# Altium schematic symbol library vDigital.SCHLIB: 48 symbols
Pins are listed as number, name and electrical type; pins without a type are passive.

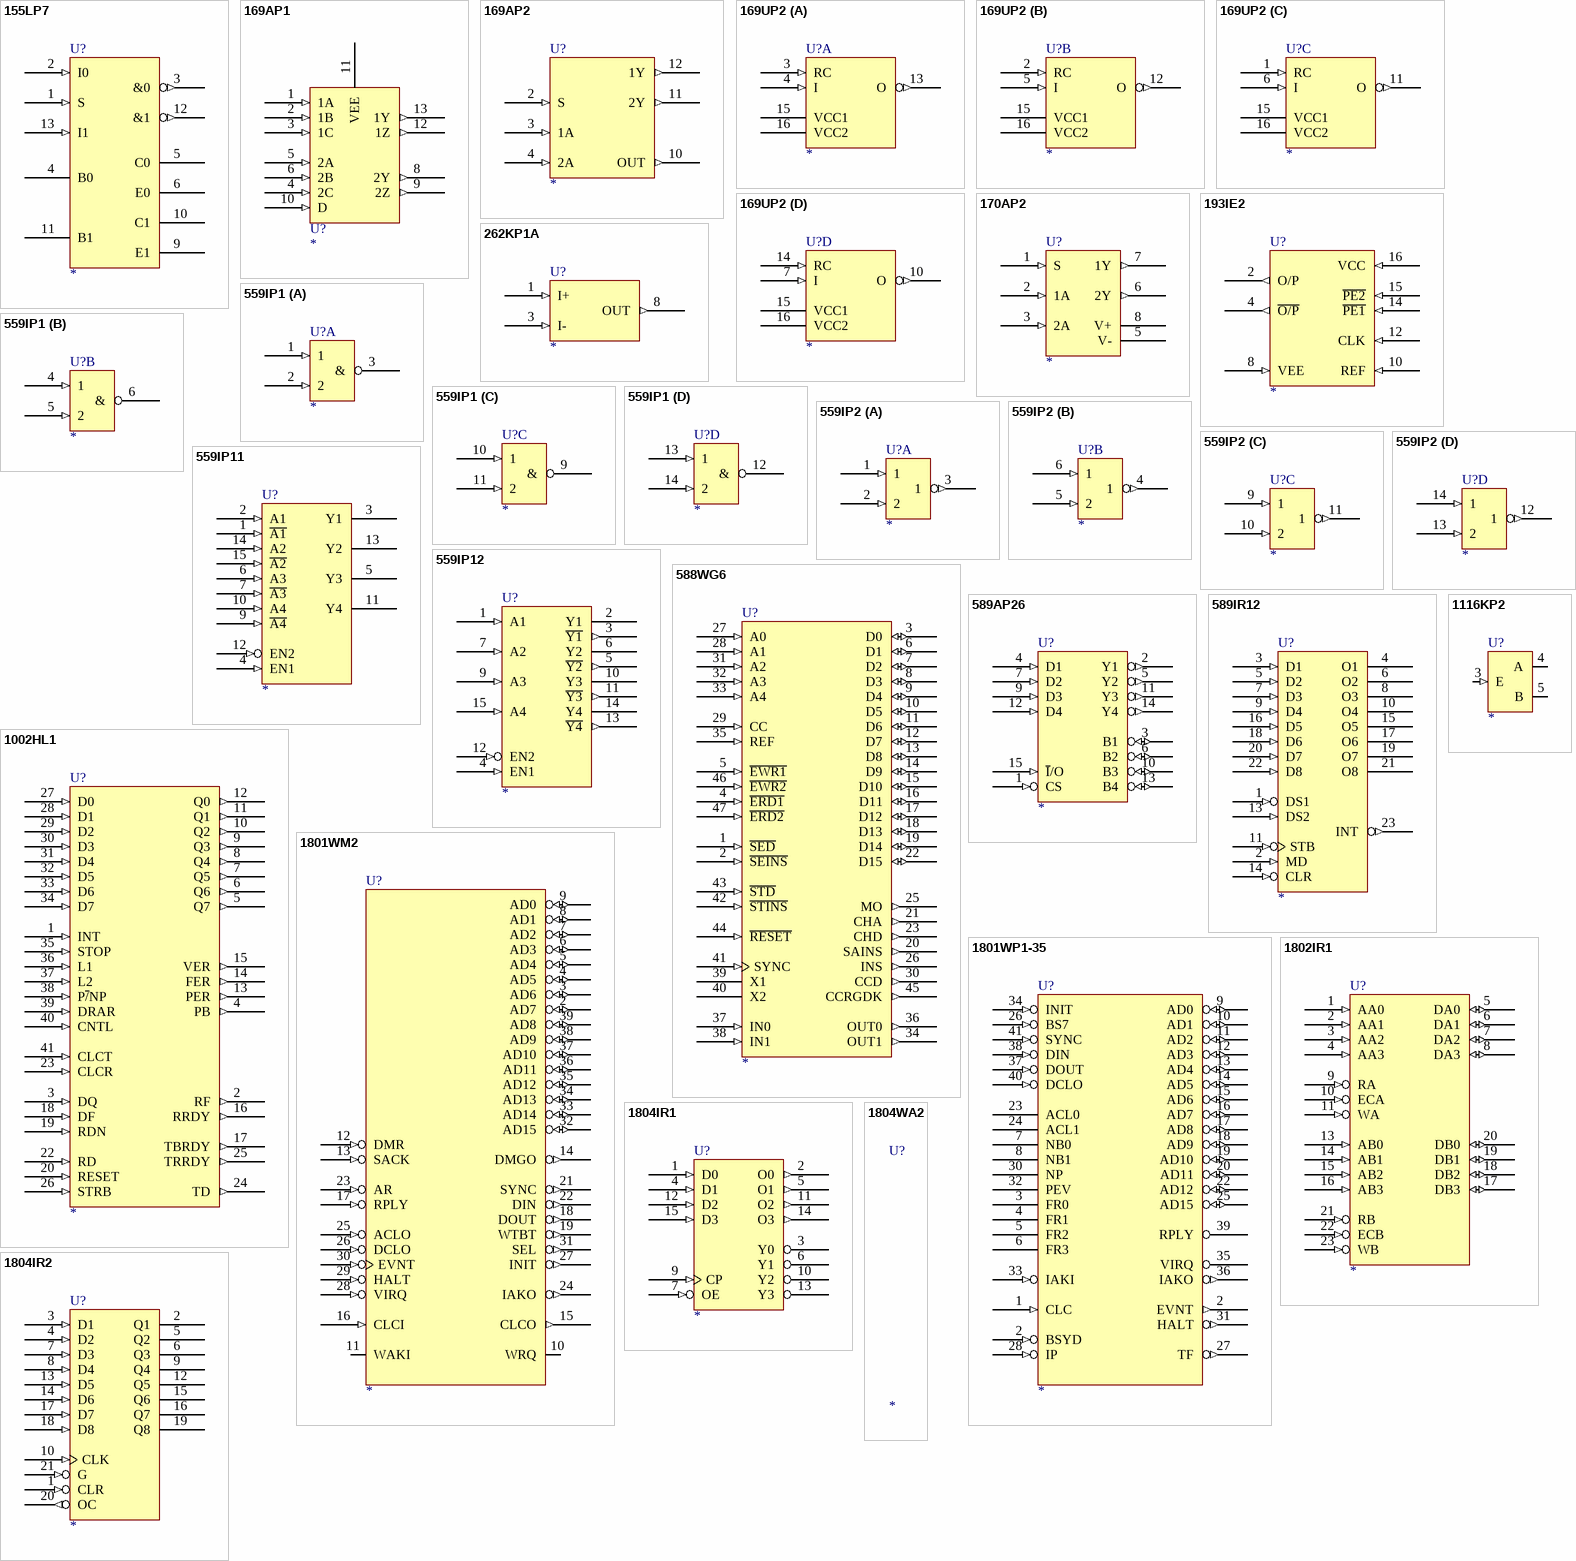
[diagram p0: symbols 155LP7 to 1804WA2]

## 155LP7
designator U?
Text Field1: 60; Text Field2: 140
pins: 1 S (in), 2 I0 (in), 3 &0 (out), 4 B0, 5 C0, 6 E0, 7 GND (power) hidden to GND, 9 E1, 10 C1, 11 B1, 12 &1 (out), 13 I1 (in), 14 VCC (power) hidden to VCC

## 169AP1
designator U?
Text Field1: 60; Text Field2: 90
pins: 1 1A (in), 2 1B (in), 3 1C (in), 4 2C (in), 5 2A (in), 6 2B (in), 7 GND (power) hidden to GND, 8 2Y (out), 9 2Z (out), 10 D (in), 11 VEE, 12 1Z (out), 13 1Y (out), 14 VCC (power) hidden to VCC

## 169AP2
designator U?
Text Field1: 70; Text Field2: 80
pins: 2 S (in), 3 1A (in), 4 2A (in), 5 GND (power) hidden to GND, 10 OUT (out), 11 2Y (out), 12 1Y (out), 13 VCC (power) hidden to VCC

## 169UP2
designator U?
Text Field1: 60; Text Field2: 60
part A pins: 3 RC (in), 4 I (in), 8 GND (power) hidden to GND, 13 O (out), 15 VCC1, 16 VCC2
part B pins: 2 RC (in), 5 I (in), 8 GND (power) hidden to GND, 12 O (out), 15 VCC1, 16 VCC2
part C pins: 1 RC (in), 6 I (in), 8 GND (power) hidden to GND, 11 O (out), 15 VCC1, 16 VCC2
part D pins: 7 I (in), 8 GND (power) hidden to GND, 10 O (out), 14 RC (in), 15 VCC1, 16 VCC2

## 170AP2
designator U?
Text Field1: 50; Text Field2: 70
pins: 1 S (in), 2 1A (in), 3 2A (in), 4 GND (power) hidden to GND, 5 V-, 6 2Y (out), 7 1Y (out), 8 V+

## 193IE2
designator U?
Text Field1: 70; Text Field2: 90
pins: 2 O/P (out), 4 ~{O/P} (out), 8 VEE (in), 10 REF (in), 12 CLK (in), 14 ~{PE1} (in), 15 ~{PE2} (in), 16 VCC (in)

## 262KP1A
designator U?
Text Field1: 60; Text Field2: 40
pins: 1 I+ (in), 3 VCC (power) hidden to VCC, 3 I- (in), 7 GND (power) hidden to GND, 8 OUT (out)

## 559IP1
designator U?
Text Field1: 30; Text Field2: 40
part A pins: 1 (in), 2 (in), 3 & (oc), 8 GND (power) hidden to GND, 16 VCC (power) hidden to VCC
part B pins: 4 1 (in), 5 2 (in), 6 & (oc), 8 GND (power) hidden to GND, 16 VCC (power) hidden to VCC
part C pins: 8 GND (power) hidden to GND, 9 & (oc), 10 1 (in), 11 2 (in), 16 VCC (power) hidden to VCC
part D pins: 8 GND (power) hidden to GND, 12 & (oc), 13 1 (in), 14 2 (in), 16 VCC (power) hidden to VCC

## 559IP2
designator U?
Text Field1: 30; Text Field2: 40
part A pins: 1 (in), 2 (in), 3 1 (out), 8 GND (power) hidden to GND, 16 VCC (power) hidden to VCC
part B pins: 4 1 (out), 5 2 (in), 6 1 (in), 8 GND (power) hidden to GND, 16 VCC (power) hidden to VCC
part C pins: 8 GND (power) hidden to GND, 9 1 (in), 10 2 (in), 11 1 (out), 16 VCC (power) hidden to VCC
part D pins: 8 GND (power) hidden to GND, 12 1 (out), 13 2 (in), 14 1 (in), 16 VCC (power) hidden to VCC

## 559IP11
designator U?
Text Field1: 60; Text Field2: 120
pins: 1 ~{A1} (in), 2 A1 (in), 3 Y1 (hiz), 4 EN1 (in), 5 Y3 (hiz), 6 A3 (in), 7 ~{A3} (in), 8 GND (power) hidden to GND, 9 ~{A4} (in), 10 A4 (in), 11 Y4 (hiz), 12 EN2 (in), 13 Y2 (hiz), 14 A2 (in), 15 ~{A2} (in), 16 VCC (power) hidden to VCC

## 559IP12
designator U?
Text Field1: 60; Text Field2: 120
pins: 1 A1 (in), 2 Y1 (hiz), 3 ~{Y1} (out), 4 EN1 (in), 5 ~{Y2} (out), 6 Y2 (hiz), 7 A2 (in), 8 GND (power) hidden to GND, 9 A3 (in), 10 Y3 (hiz), 11 ~{Y3} (out), 12 EN2 (in), 13 ~{Y4} (out), 14 Y4 (hiz), 15 A4 (in), 16 VCC (power) hidden to VCC

## 588WG6
designator U?
Text Field1: 100; Text Field2: 290
pins: 1 ~{SED} (in), 2 ~{SEINS} (in), 3 D0 (io), 4 ~{ERD1} (in), 5 ~{EWR1} (in), 6 D1 (io), 7 D2 (io), 8 D3 (io), 9 D4 (io), 10 D5 (io), 11 D6 (io), 12 D7 (io), 13 D8 (io), 14 D9 (io), 15 D10 (io), 16 D11 (io), 17 D12 (io), 18 D13 (io), 19 D14 (io), 20 SAINS (out), 21 CHA (out), 22 D15 (io), 23 CHD (out), 24 VCC (power) hidden to VCC, 25 MO (out), 26 INS (out), 27 A0 (in), 28 A1 (in), 29 CC (in), 30 CCD (out), 31 A2 (in), 32 A3 (in), 33 A4 (in), 34 OUT1 (out), 35 REF (in), 36 OUT0 (out), 37 IN0 (in), 38 IN1 (in), 39 X1, 40 X2, 41 SYNC (in), 42 ~{STINS} (in), 43 ~{STD} (in), 44 ~{RESET} (in), 45 CCRGDK (out), 46 ~{EWR2} (in), 47 ~{ERD2} (in), 48 GND (power) hidden to GND

## 589AP26
designator U?
Text Field1: 60; Text Field2: 100
footprint 16DIP300
pins: 1 CS (in), 2 Y1 (out), 3 B1 (io), 4 D1 (in), 5 Y2 (out), 6 B2 (io), 7 D2 (in), 8 GND (power) hidden to GND, 9 D3 (in), 10 B3 (io), 11 Y3 (out), 12 D4 (in), 13 B4 (io), 14 Y4 (out), 15 ~{I}/O (in), 16 VCC (power) hidden to VCC

## 589IR12
designator U?
Text Field1: 60; Text Field2: 160
pins: 1 DS1 (in), 2 MD (in), 3 D1 (in), 4 O1 (hiz), 5 D2 (in), 6 O2 (hiz), 7 D3 (in), 8 O3 (hiz), 9 D4 (in), 10 O4 (hiz), 11 STB (in), 12 GND (power) hidden to GND, 13 DS2 (in), 14 CLR (in), 15 O5 (hiz), 16 D5 (in), 17 O6 (hiz), 18 D6 (in), 19 O7 (hiz), 20 D7 (in), 21 O8 (hiz), 22 D8 (in), 23 INT (out), 24 VCC (power) hidden to VCC

## 1002HL1
designator U?
Text Field1: 100; Text Field2: 280
pins: 1 INT (in), 2 RF (out), 3 DQ (in), 4 PB (out), 5 Q7 (out), 6 Q6 (out), 7 Q5 (out), 8 Q4 (out), 9 Q3 (out), 10 Q2 (out), 11 Q1 (out), 12 Q0 (out), 13 PER (out), 14 FER (out), 15 VER (out), 16 RRDY (out), 17 TBRDY (out), 18 DF (in), 19 RDN (in), 20 RESET (in), 21 GND (power) hidden to GND, 22 RD (in), 23 CLCR (in), 24 TD (out), 25 TRRDY (out), 26 STRB (in), 27 D0 (in), 28 D1 (in), 29 D2 (in), 30 D3 (in), 31 D4 (in), 32 D5 (in), 33 D6 (in), 34 D7 (in), 35 STOP (in), 36 L1 (in), 37 L2 (in), 38 P~{/}NP (in), 39 DRAR (in), 40 CNTL (in), 41 CLCT (in), 42 VCC (power) hidden to VCC

## 1116KP2
designator U?
Text Field1: 30; Text Field2: 40
pins: 1 GND (power) hidden to GND, 2 VCC (power) hidden to VCC, 3 E (in), 4 A (oc), 5 B (oc)

## 1801WM2
designator U?
Text Field1: 120; Text Field2: 330
pins: 1 GND (power) hidden to GND, 2 AD7 (io), 3 AD6 (io), 4 AD5 (io), 5 AD4 (io), 6 AD3 (io), 7 AD2 (io), 8 AD1 (io), 9 AD0 (io), 10 WRQ, 11 WAKI, 12 DMR (in), 13 SACK (in), 14 DMGO (out), 15 CLCO (out), 16 CLCI (in), 17 RPLY (in), 18 DOUT (out), 19 WTBT (out), 20 GND (power) hidden to GND, 21 SYNC (out), 22 DIN (out), 23 AR (in), 24 IAKO (out), 25 ACLO (in), 26 DCLO (in), 27 INIT (out), 28 VIRQ (in), 29 HALT (in), 30 EVNT (in), 31 SEL (out), 32 AD15 (io), 33 AD14 (io), 34 AD13 (io), 35 AD12 (io), 36 AD11 (io), 37 AD10 (io), 38 AD9 (io), 39 AD8 (io), 40 VCC (power) hidden to VCC

## 1801WP1-35
designator U?
Text Field1: 110; Text Field2: 260
pins: 1 CLC (in), 2 EVNT (out), 2 BSYD (in), 3 FR0 (hiz), 4 FR1, 5 FR2, 6 FR3, 7 NB0, 8 NB1, 9 AD0 (io), 10 AD1 (io), 11 AD2 (io), 12 AD3 (io), 13 AD4 (io), 14 AD5 (io), 15 AD6 (io), 16 AD7 (io), 17 AD8 (io), 18 AD9 (io), 19 AD10 (io), 20 AD11 (io), 21 GND (power) hidden to GND, 22 AD12 (io), 23 ACL0, 24 ACL1, 25 AD15 (io), 26 BS7 (in), 27 TF (out), 28 IP (in), 30 NP, 31 HALT (out), 32 PEV, 33 IAKI (in), 34 INIT (in), 35 VIRQ (oc), 36 IAKO (out), 37 DOUT (in), 38 DIN (in), 39 RPLY (oc), 40 DCLO (in), 41 SYNC (in), 42 VCC (power) hidden to VCC

## 1802IR1
designator U?
Text Field1: 80; Text Field2: 180
pins: 1 AA0 (in), 2 AA1 (in), 3 AA2 (in), 4 AA3 (in), 5 DA0 (io), 6 DA1 (io), 7 DA2 (io), 8 DA3 (io), 9 RA (in), 10 ECA (in), 11 WA (in), 12 GND (power) hidden to GND, 13 AB0 (in), 14 AB1 (in), 15 AB2 (in), 16 AB3 (in), 17 DB3 (io), 18 DB2 (io), 19 DB1 (io), 20 DB0 (io), 21 RB (in), 22 ECB (in), 23 WB (in), 24 VCC (power) hidden to VCC

## 1804IR1
designator U?
Text Field1: 60; Text Field2: 100
pins: 1 D0 (in), 2 O0 (out), 3 Y0 (hiz), 4 D1 (in), 5 O1 (out), 6 Y1 (hiz), 7 OE (in), 8 GND (power) hidden to GND, 9 CP (in), 10 Y2 (hiz), 11 O2 (out), 12 D2 (in), 13 Y3 (hiz), 14 O3 (out), 15 D3 (in), 16 VCC (power) hidden to VCC

## 1804IR2
designator U?
Text Field1: 60; Text Field2: 140
pins: 1 CLR (in), 2 Q1 (hiz), 3 D1 (in), 4 D2 (in), 5 Q2 (hiz), 6 Q3 (hiz), 7 D3 (in), 8 D4 (in), 9 Q4 (hiz), 10 CLK (in), 11 GND (power) hidden to GND, 12 Q5 (hiz), 13 D5 (in), 14 D6 (in), 15 Q6 (hiz), 16 Q7 (hiz), 17 D7 (in), 18 D8 (in), 19 Q8 (hiz), 20 OC (out), 21 G (in), 22 VCC (power) hidden to VCC

## 1804WA2
designator U?
Text Field1: 80; Text Field2: 160
pins: 5 GND (power) hidden to GND, 15 GND (power) hidden to GND, 20 VCC (power) hidden to VCC

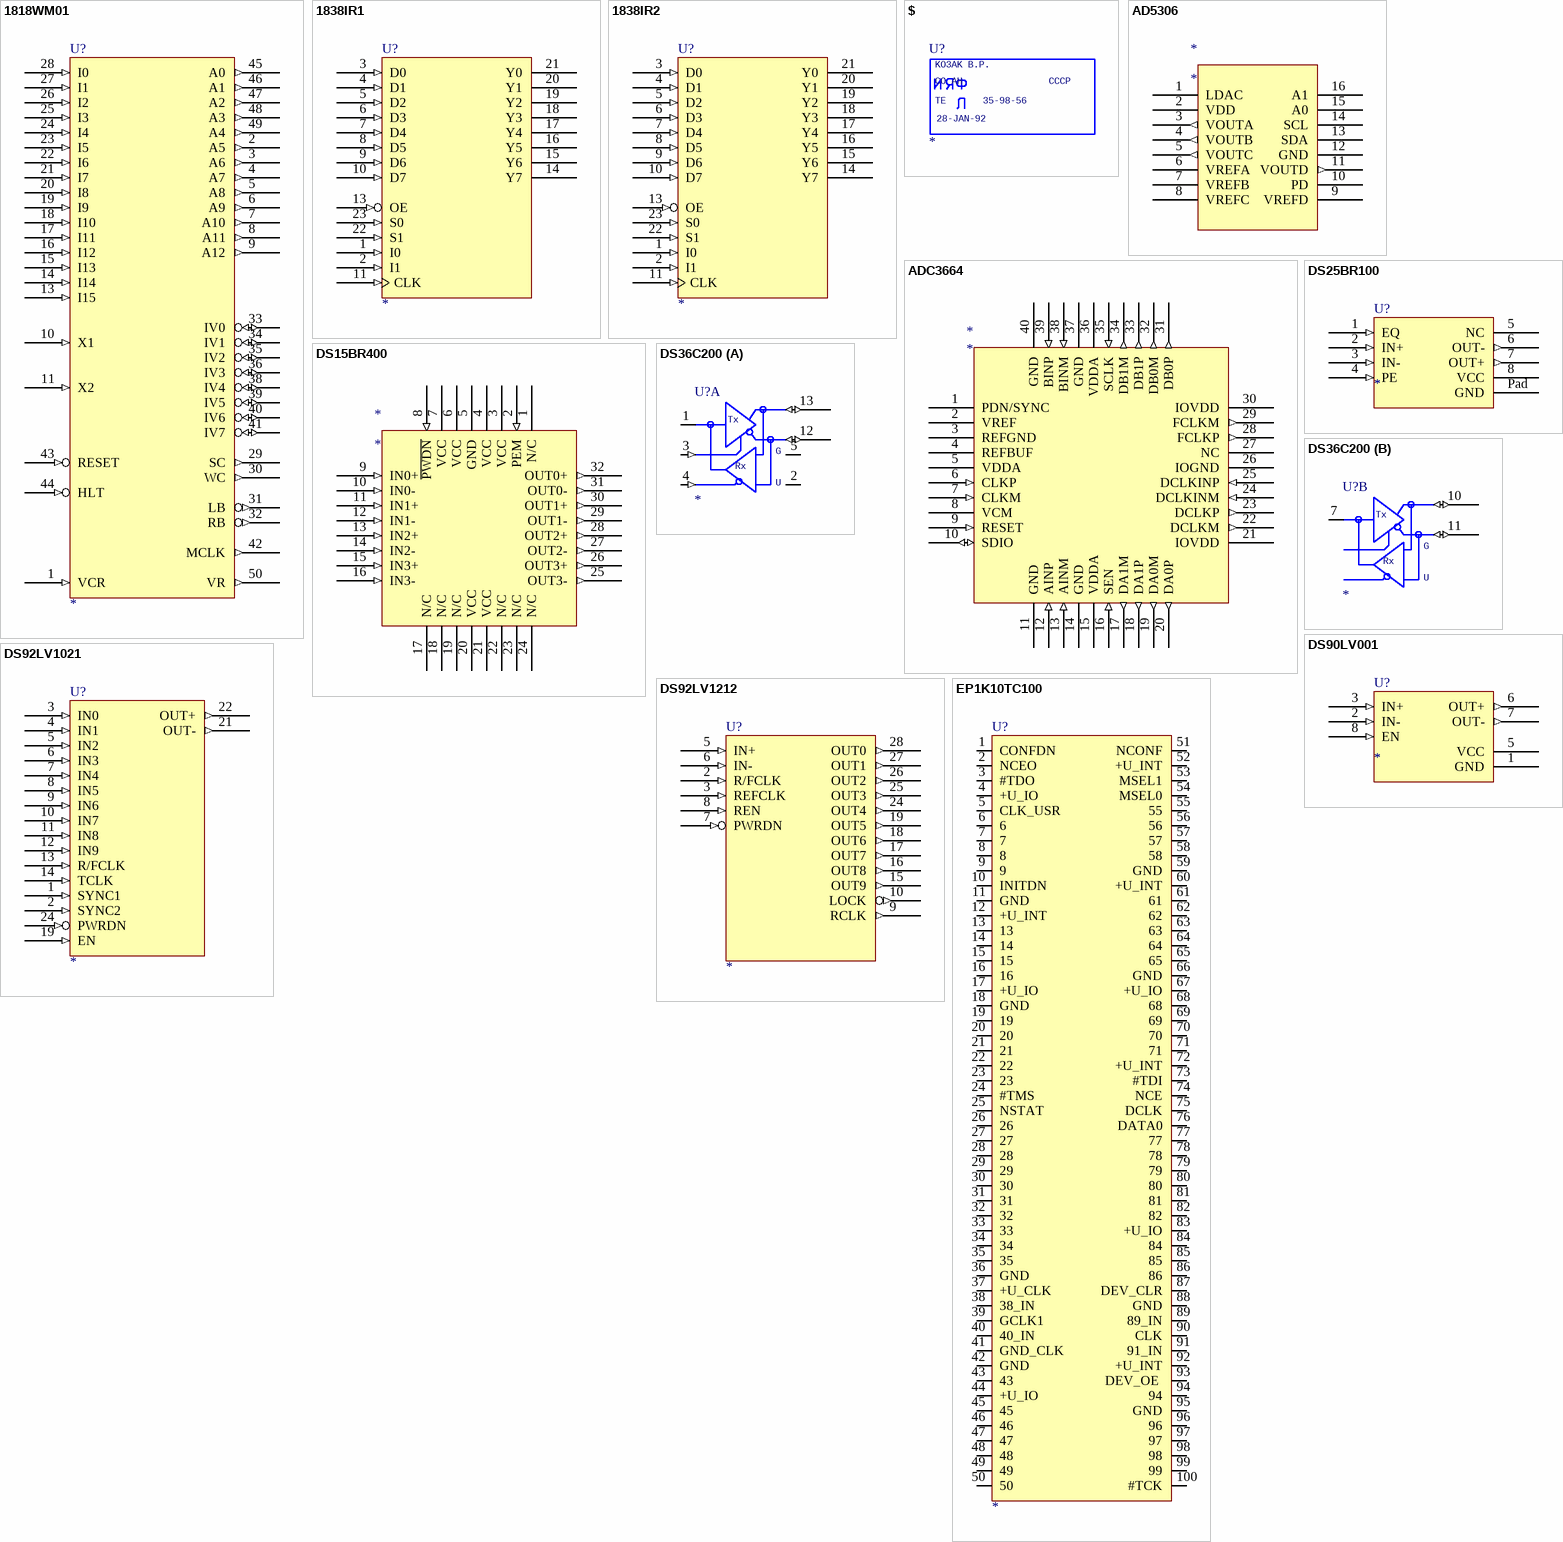
[diagram p1: symbols 1818WM01 to EP1K10TC100]

## 1818WM01
designator U?
Text Field1: 110; Text Field2: 360
pins: 1 VCR (in), 2 A5 (out), 3 A6 (out), 4 A7 (out), 5 A8 (out), 6 A9 (out), 7 A10 (out), 8 A11 (out), 9 A12 (out), 10 X1 (in), 11 X2 (in), 12 GND (power) hidden to GND, 13 I15 (in), 14 I14 (in), 15 I13 (in), 16 I12 (in), 17 I11 (in), 18 I10 (in), 19 I9 (in), 20 I8 (in), 21 I7 (in), 22 I6 (in), 23 I5 (in), 24 I4 (in), 25 I3 (in), 26 I2 (in), 27 I1 (in), 28 I0 (in), 29 SC (out), 30 WC (out), 31 LB (out), 32 RB (out), 33 IV0 (io), 34 IV1 (io), 35 IV2 (io), 36 IV3 (io), 37 VCC (power) hidden to VCC, 38 IV4 (io), 39 IV5 (io), 40 IV6 (io), 41 IV7 (io), 42 MCLK (out), 43 RESET (in), 44 HLT (in), 45 A0 (out), 46 A1 (out), 47 A2 (out), 48 A3 (out), 49 A4 (out), 50 VR (out)

## 1838IR1
designator U?
Text Field1: 100; Text Field2: 160
pins: 1 I0 (in), 2 I1 (in), 3 D0 (in), 4 D1 (in), 5 D2 (in), 6 D3 (in), 7 D4 (in), 8 D5 (in), 9 D6 (in), 10 D7 (in), 11 CLK (in), 12 GND (power) hidden to GND, 13 OE (in), 14 Y7 (hiz), 15 Y6 (hiz), 16 Y5 (hiz), 17 Y4 (hiz), 18 Y3 (hiz), 19 Y2 (hiz), 20 Y1 (hiz), 21 Y0 (hiz), 22 S1 (in), 23 S0 (in), 24 VCC (power) hidden to VCC

## 1838IR2
designator U?
Text Field1: 100; Text Field2: 160
pins: 1 I0 (in), 2 I1 (in), 3 D0 (in), 4 D1 (in), 5 D2 (in), 6 D3 (in), 7 D4 (in), 8 D5 (in), 9 D6 (in), 10 D7 (in), 11 CLK (in), 12 GND (power) hidden to GND, 13 OE (in), 14 Y7 (hiz), 15 Y6 (hiz), 16 Y5 (hiz), 17 Y4 (hiz), 18 Y3 (hiz), 19 Y2 (hiz), 20 Y1 (hiz), 21 Y0 (hiz), 22 S1 (in), 23 S0 (in), 24 VCC (power) hidden to VCC

## $
designator U?
Text Field1: 110; Text Field2: 50
text: KO3AK B.P.; CO AH; CCCP; TE; 35-98-56; 28-JAN-92

## AD5306
designator *
footprint RU-16 (Shrink Small Outline; 16 Leads; Body Width 4.4 mm; Pitch 0.65 mm)
pins: 1 LDAC, 2 VDD (power), 3 VOUTA (out), 4 VOUTB (out), 5 VOUTC (out), 6 VREFA, 7 VREFB, 8 VREFC, 9 VREFD, 10 PD, 11 VOUTD (out), 12 GND, 13 SDA (power), 14 SCL, 15 A0, 16 A1

## ADC3664
designator *
footprint WQFN-40
pins: 1 PDN/SYNC, 2 VREF (power), 3 REFGND, 4 REFBUF, 5 VDDA (power), 6 CLKP (in), 7 CLKM (in), 8 VCM (power), 9 RESET (in), 10 SDIO (io), 11 GND (power), 12 AINP (in), 13 AINM (in), 14 GND (power), 15 VDDA (power), 16 SEN (in), 17 DA1M (out), 18 DA1P (out), 19 DA0M (out), 20 DA0P (out), 21 IOVDD (power), 22 DCLKM (out), 23 DCLKP (out), 24 DCLKINM (in), 25 DCLKINP (in), 26 IOGND (power), 27 NC, 28 FCLKP (out), 29 FCLKM (out), 30 IOVDD (power), 31 DB0P (out), 32 DB0M (out), 33 DB1P (out), 34 DB1M (out), 35 SCLK (in), 36 VDDA (power), 37 GND (power), 38 BINM (in), 39 BINP (in), 40 GND (power)

## DS15BR400
designator *
pins: 1 N/C, 2 PEM (in), 3 VCC (power), 4 VCC (power), 5 GND (power), 6 VCC (power), 7 VCC (power), 8 ~{PWDN} (in), 9 IN0+ (in), 10 IN0- (in), 11 IN1+ (in), 12 IN1- (in), 13 IN2+ (in), 14 IN2- (in), 15 IN3+ (in), 16 IN3- (in), 17 N/C, 18 N/C, 19 N/C, 20 VCC (power), 21 VCC (power), 22 N/C, 23 N/C, 24 N/C, 25 OUT3- (out), 26 OUT3+ (out), 27 OUT2- (out), 28 OUT2+ (out), 29 OUT1- (out), 30 OUT1+ (out), 31 OUT0- (out), 32 OUT0+ (out)

## DS25BR100
designator U?
Text Field1: 80; Text Field2: 40
footprint WSON-8
pins: 1 EQ (in), 2 IN+ (in), 3 IN- (in), 4 PE (in), 5 NC, 6 OUT- (out), 7 OUT+ (out), 8 VCC (power), Pad GND (power)

## DS36C200
designator U?
Text Field1: 60; Text Field2: 70
part A pins: 1 DATA (io), 2 VCC, 3 TE (in), 4 RE (in), 5 GND, 12 WIRE- (io), 13 WIRE+ (io)
part B pins: 7 DATA (io), 10 WIRE+ (io), 11 WIRE- (io)
part A text: Tx; G; Rx; U
part B text: Tx; G; Rx; U

## DS90LV001
designator U?
Text Field1: 80; Text Field2: 40
pins: 1 GND (power), 2 IN- (in), 3 IN+ (in), 5 VCC (power), 6 OUT+ (out), 7 OUT- (out), 8 EN (in)

## DS92LV1021
designator U?
Text Field1: 90; Text Field2: 170
pins: 1 SYNC1 (in), 2 SYNC2 (in), 3 IN0 (in), 4 IN1 (in), 5 IN2 (in), 6 IN3 (in), 7 IN4 (in), 8 IN5 (in), 9 IN6 (in), 10 IN7 (in), 11 IN8 (in), 12 IN9 (in), 13 R/FCLK (in), 14 TCLK (in), 15 DGND (power) hidden to DGND, 16 DGND (power) hidden to DGND, 17 AVCC (power) hidden to AVCC, 18 AGND (power) hidden to AGND, 19 EN (in), 20 AGND (power) hidden to AGND, 21 OUT- (out), 22 OUT+ (out), 23 AGND (power) hidden to AGND, 24 PWRDN (in), 25 AGND (power) hidden to AGND, 26 AVCC (power) hidden to AVCC, 27 DVCC (power) hidden to DVCC, 28 DVCC (power) hidden to DVCC

## DS92LV1212
designator U?
Text Field1: 100; Text Field2: 150
pins: 1 AGND (power) hidden to AGND, 2 R/FCLK (in), 3 REFCLK (in), 4 AVCC (power) hidden to AVCC, 5 IN+ (in), 6 IN- (in), 7 PWRDN (in), 8 REN (in), 9 RCLK (out), 10 LOCK (out), 11 AVCC (power) hidden to AVCC, 12 AGND (power) hidden to AGND, 13 AGND (power) hidden to AGND, 14 DGND (power) hidden to DGND, 15 OUT9 (out), 16 OUT8 (out), 17 OUT7 (out), 18 OUT6 (out), 19 OUT5 (out), 20 DGND (power) hidden to DGND, 21 DVCC (power) hidden to DVCC, 22 DGND (power) hidden to DGND, 23 DVCC (power) hidden to DVCC, 24 OUT4 (out), 25 OUT3 (out), 26 OUT2 (out), 27 OUT1 (out), 28 OUT0 (out)

## EP1K10TC100
designator U?
Text Field1: 120; Text Field2: 510
footprint TSSOP100
pins: 1 CONFDN (io), 2 NCEO (io), 3 #TDO (io), 4 +U_IO (io), 5 CLK_USR (io), 6 (io), 7 (io), 8 (io), 9 (io), 10 INITDN (io), 11 GND (io), 12 +U_INT (io), 13 (io), 14 (io), 15 (io), 16 (io), 17 +U_IO (io), 18 GND (io), 19 (io), 20 (io), 21 (io), 22 (io), 23 (io), 24 #TMS (io), 25 NSTAT (io), 26 (io), 27 (io), 28 (io), 29 (io), 30 (io), 31 (io), 32 (io), 33 (io), 34 (io), 35 (io), 36 GND (io), 37 +U_CLK (io), 38 38_IN (io), 39 GCLK1 (io), 40 40_IN (io), 41 GND_CLK (io), 42 GND (io), 43 (io), 44 +U_IO (io), 45 (io), 46 (io), 47 (io), 48 (io), 49 (io), 50 (io), 51 NCONF (io), 52 +U_INT (io), 53 MSEL1 (io), 54 MSEL0 (io), 55 (io), 56 (io), 57 (io), 58 (io), 59 GND (io), 60 +U_INT (io), 61 (io), 62 (io), 63 (io), 64 (io), 65 (io), 66 GND (io), 67 +U_IO (io), 68 (io), 69 (io), 70 (io), 71 (io), 72 +U_INT (io), 73 #TDI (io), 74 NCE (io), 75 DCLK (io), 76 DATA0 (io), 77 (io), 78 (io), 79 (io), 80 (io), 81 (io), 82 (io), 83 +U_IO (io), 84 (io), 85 (io), 86 (io), 87 DEV_CLR (io), 88 GND (io), 89 89_IN (io), 90 CLK (io), 91 91_IN (io), 92 +U_INT (io), 93 DEV_OE  (io), 94 (io), 95 GND (io), 96 (io), 97 (io), 98 (io), 99 (io), 100 #TCK (io)

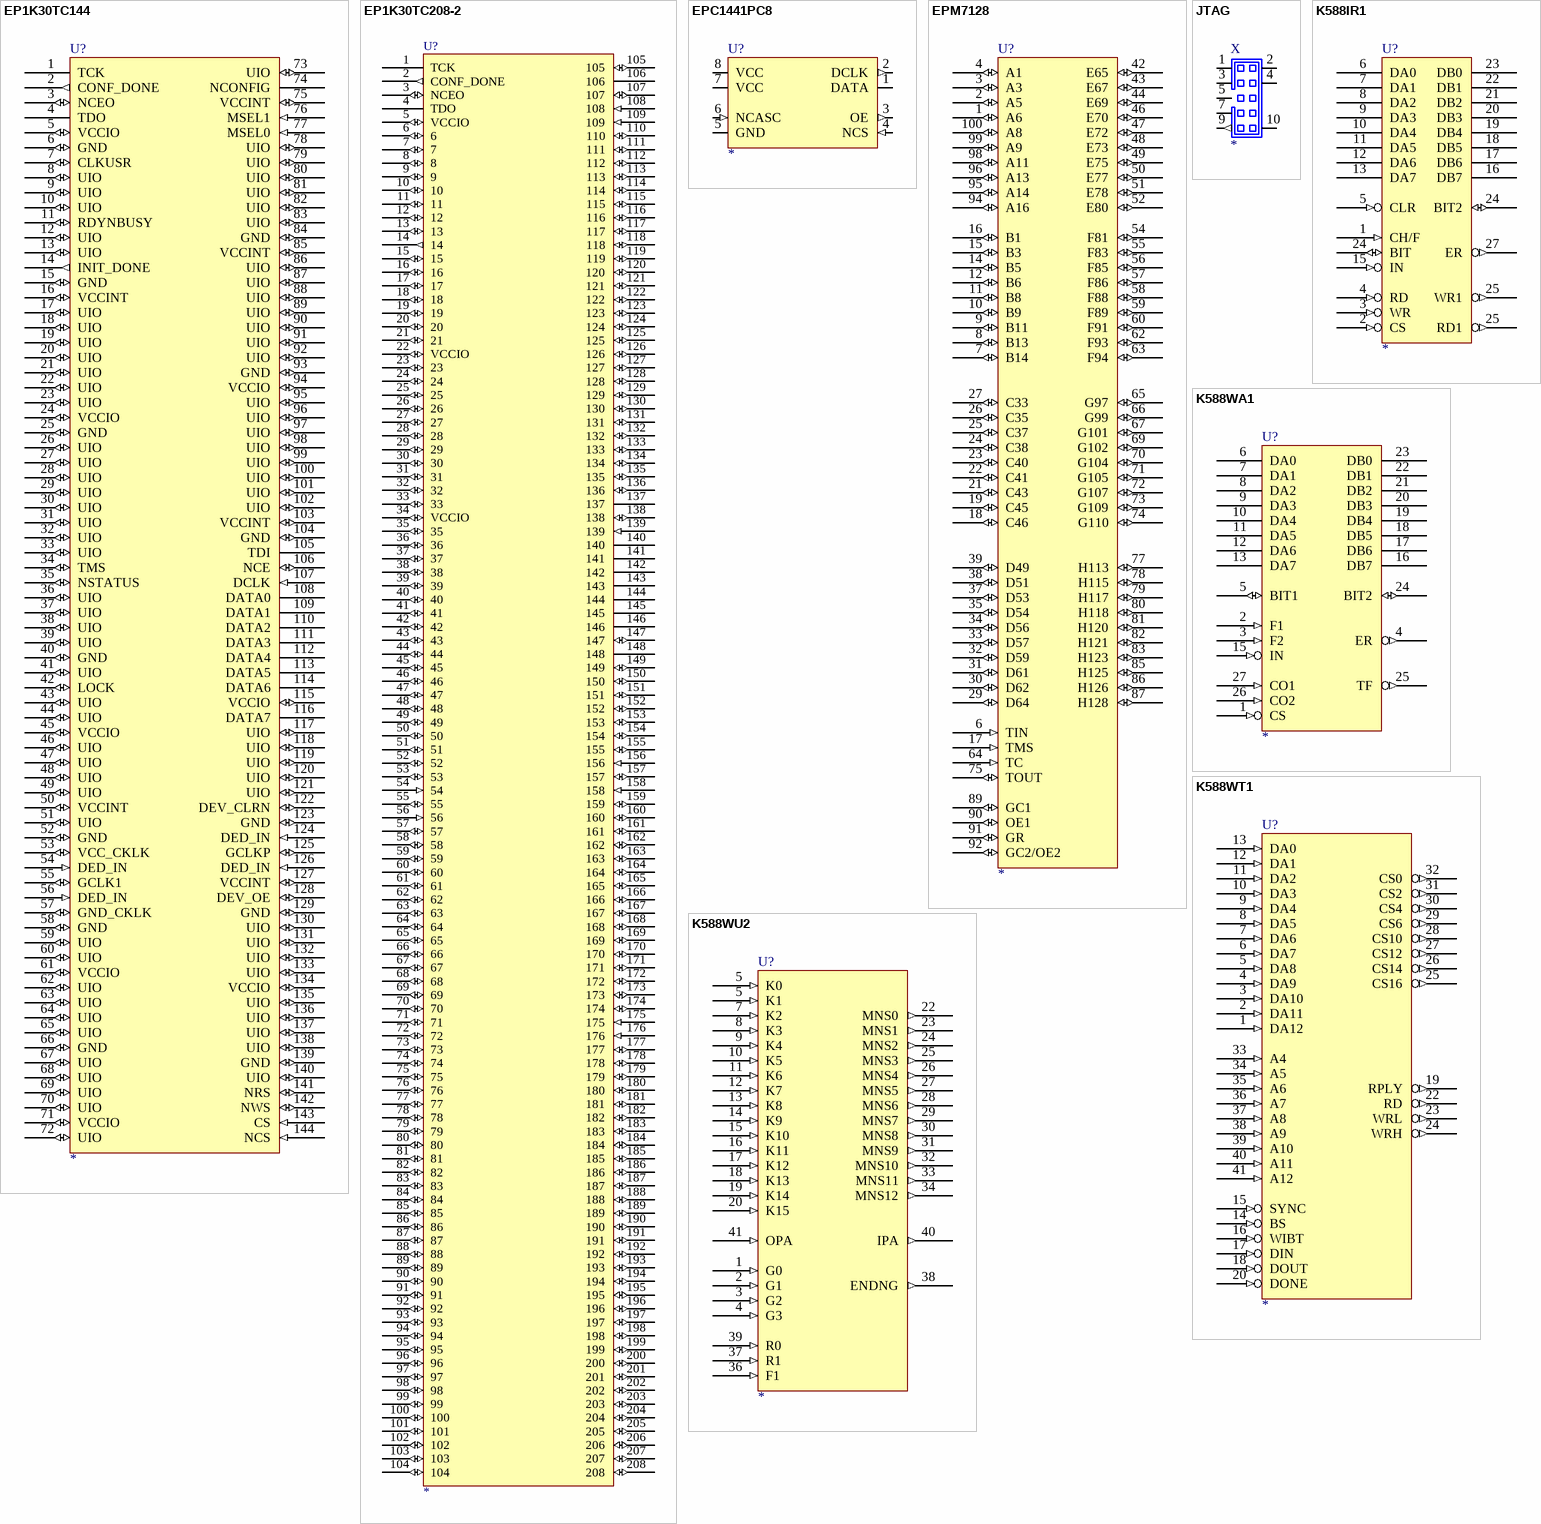
[diagram p2: symbols EP1K30TC144 to K588WU2]

## EP1K30TC144
designator U?
Text Field1: 140; Text Field2: 730
footprint TQFP144
pins: 1 TCK, 2 CONF_DONE (out), 3 NCEO (io), 4 TDO, 5 VCCIO (io), 6 GND (io), 7 CLKUSR (io), 8 UIO (io), 9 UIO (io), 10 UIO (io), 11 RDYNBUSY (io), 12 UIO (io), 13 UIO (io), 14 INIT_DONE (out), 15 GND (io), 16 VCCINT (io), 17 UIO (io), 18 UIO (io), 19 UIO (io), 20 UIO (io), 21 UIO (io), 22 UIO (io), 23 UIO (io), 24 VCCIO (io), 25 GND (io), 26 UIO (io), 27 UIO (io), 28 UIO (io), 29 UIO (io), 30 UIO (io), 31 UIO (io), 32 UIO (io), 33 UIO (io), 34 TMS (io), 35 NSTATUS (io), 36 UIO (io), 37 UIO (io), 38 UIO (io), 39 UIO (io), 40 GND (io), 41 UIO (io), 42 LOCK (io), 43 UIO (io), 44 UIO (io), 45 VCCIO (io), 46 UIO (io), 47 UIO (io), 48 UIO (io), 49 UIO (io), 50 VCCINT (io), 51 UIO (io), 52 GND (io), 53 VCC_CKLK (io), 54 DED_IN (in), 55 GCLK1 (io), 56 DED_IN (in), 57 GND_CKLK (io), 58 GND (io), 59 UIO (io), 60 UIO (io), 61 VCCIO (io), 62 UIO (io), 63 UIO (io), 64 UIO (io), 65 UIO (io), 66 GND (io), 67 UIO (io), 68 UIO (io), 69 UIO (io), 70 UIO (io), 71 VCCIO (io), 72 UIO (io), 73 UIO (io), 74 NCONFIG, 75 VCCINT (io), 76 MSEL1 (in), 77 MSEL0 (in), 78 UIO (io), 79 UIO (io), 80 UIO (io), 81 UIO (io), 82 UIO (io), 83 UIO (io), 84 GND (io), 85 VCCINT (io), 86 UIO (io), 87 UIO (io), 88 UIO (io), 89 UIO (io), 90 UIO (io), 91 UIO (io), 92 UIO (io), 93 GND (io), 94 VCCIO (io), 95 UIO (io), 96 UIO (io), 97 UIO (io), 98 UIO (io), 99 UIO (io), 100 UIO (io), 101 UIO (io), 102 UIO (io), 103 VCCINT (io), 104 GND (io), 105 TDI, 106 NCE (io), 107 DCLK (in), 108 DATA0, 109 DATA1, 110 DATA2, 111 DATA3, 112 DATA4, 113 DATA5, 114 DATA6, 115 VCCIO (io), 116 DATA7, 117 UIO (io), 118 UIO (io), 119 UIO (io), 120 UIO (io), 121 UIO (io), 122 DEV_CLRN (io), 123 GND (io), 124 DED_IN (in), 125 GCLKP (io), 126 DED_IN (in), 127 VCCINT (io), 128 DEV_OE (io), 129 GND (io), 130 UIO (io), 131 UIO (io), 132 UIO (io), 133 UIO (io), 134 VCCIO (io), 135 UIO (io), 136 UIO (io), 137 UIO (io), 138 UIO (io), 139 GND (io), 140 UIO (io), 141 NRS (io), 142 NWS (io), 143 CS (in), 144 NCS (in)

## EP1K30TC208-2
designator U?
Text Field1: 140; Text Field2: 1050
footprint TQFP208
pins: 1 TCK, 2 CONF_DONE (out), 3 NCEO (io), 4 TDO, 5 VCCIO (io), 6 (io), 7 (io), 8 (io), 9 (io), 10 (io), 11 (io), 12 (io), 13 (io), 14 (out), 15 (io), 16 (io), 17 (io), 18 (io), 19 (io), 20 (io), 21 (io), 22 VCCIO (io), 23 (io), 24 (io), 25 (io), 26 (io), 27 (io), 28 (io), 29 (io), 30 (io), 31 (io), 32 (io), 33 (io), 34 VCCIO (io), 35 (io), 36 (io), 37 (io), 38 (io), 39 (io), 40 (io), 41 (io), 42 (io), 43 (io), 44 (io), 45 (io), 46 (io), 47 (io), 48 (io), 49 (io), 50 (io), 51 (io), 52 (io), 53 (io), 54 (in), 55 (io), 56 (in), 57 (io), 58 (io), 59 (io), 60 (io), 61 (io), 62 (io), 63 (io), 64 (io), 65 (io), 66 (io), 67 (io), 68 (io), 69 (io), 70 (io), 71 (io), 72 (io), 73 (io), 74 (io), 75 (io), 76 (io), 77 (io), 78 (io), 79 (io), 80 (io), 81 (io), 82 (io), 83 (io), 84 (io), 85 (io), 86 (io), 87 (io), 88 (io), 89 (io), 90 (io), 91 (io), 92 (io), 93 (io), 94 (io), 95 (io), 96 (io), 97 (io), 98 (io), 99 (io), 100 (io), 101 (io), 102 (io), 103 (io), 104 (io), 105 (io), 106, 107 (io), 108 (in), 109 (in), 110 (io), 111 (io), 112 (io), 113 (io), 114 (io), 115 (io), 116 (io), 117 (io), 118 (io), 119 (io), 120 (io), 121 (io), 122 (io), 123 (io), 124 (io), 125 (io), 126 (io), 127 (io), 128 (io), 129 (io), 130 (io), 131 (io), 132 (io), 133 (io), 134 (io), 135 (io), 136 (io), 137, 138 (io), 139 (in), 140, 141, 142, 143, 144, 145, 146, 147 (io), 148, 149 (io), 150 (io), 151 (io), 152 (io), 153 (io), 154 (io), 155 (io), 156 (in), 157 (io), 158 (in), 159 (io), 160 (io), 161 (io), 162 (io), 163 (io), 164 (io), 165 (io), 166 (io), 167 (io), 168 (io), 169 (io), 170 (io), 171 (io), 172 (io), 173 (io), 174 (io), 175 (in), 176 (in), 177 (io), 178 (io), 179 (io), 180 (io), 181 (io), 182 (io), 183 (io), 184 (io), 185 (io), 186 (io), 187 (io), 188 (io), 189 (io), 190 (io), 191 (io), 192 (io), 193 (io), 194 (io), 195 (io), 196 (io), 197 (io), 198 (io), 199 (io), 200 (io), 201 (io), 202 (io), 203 (io), 204 (io), 205 (io), 206 (io), 207 (io), 208 (io)

## EPC1441PC8
designator U?
Text Field1: 100; Text Field2: 60
footprint 8DIP300
pins: 1 DATA (io), 2 DCLK (out), 3 OE (out), 4 NCS (in), 5 GND (io), 6 NCASC (in), 7 VCC (io), 8 VCC (io)

## EPM7128
designator U?
Text Field1: 80; Text Field2: 540
pins: 1 A6 (io), 2 A5 (io), 3 A3 (io), 4 A1 (io), 5 +U (power) hidden to +U, 6 TIN (in), 7 B14 (io), 8 B13 (io), 9 B11 (io), 10 B9 (io), 11 B8 (io), 12 B6 (io), 13 GND (power) hidden to GND, 14 B5 (io), 15 B3 (io), 16 B1 (io), 17 TMS (in), 18 C46 (io), 19 C45 (io), 20 +U (power) hidden to +U, 21 C43 (io), 22 C41 (io), 23 C40 (io), 24 C38 (io), 25 C37 (io), 26 C35 (io), 27 C33 (io), 28 GND (power) hidden to GND, 29 D64 (io), 30 D62 (io), 31 D61 (io), 32 D59 (io), 33 D57 (io), 34 D56 (io), 35 D54 (io), 36 +U (power) hidden to +U, 37 D53 (io), 38 D51 (io), 39 D49 (io), 40 GND (power) hidden to GND, 42 E65 (io), 43 E67 (io), 44 E69 (io), 45 GND (power) hidden to GND, 46 E70 (io), 47 E72 (io), 48 E73 (io), 49 E75 (io), 50 E77 (io), 51 E78 (io), 52 E80 (io), 53 +U (power) hidden to +U, 54 F81 (io), 55 F83 (io), 56 F85 (io), 57 F86 (io), 58 F88 (io), 59 F89 (io), 60 F91 (io), 61 GND (power) hidden to GND, 62 F93 (io), 63 F94 (io), 64 TC (in), 65 G97 (io), 66 G99 (io), 67 G101 (io), 68 +U (power) hidden to +U, 69 G102 (io), 70 G104 (io), 71 G105 (io), 72 G107 (io), 73 G109 (io), 74 G110 (io), 75 TOUT (io), 76 GND (power) hidden to GND, 77 H113 (io), 78 H115 (io), 79 H117 (io), 80 H118 (io), 81 H120 (io), 82 H121 (io), 83 H123 (io), 84 +U (power) hidden to +U, 85 H125 (io), 86 H126 (io), 87 H128 (io), 88 GND (power) hidden to GND, 89 GC1 (io), 90 OE1 (io), 91 GR (io), 92 GC2/OE2 (io), 94 A16 (io), 95 A14 (io), 96 A13 (io), 97 GND (power) hidden to GND, 98 A11 (io), 99 A9 (io), 100 A8 (io)

## JTAG
designator X
Text Field1: 20; Text Field2: 60
pins: 1 (io), 2, 3 (io), 4, 5 (io), 7 (io), 9 (out), 10

## K588IR1
designator U?
Text Field1: 60; Text Field2: 190
pins: 1 CH/F (in), 2 CS (in), 3 WR (in), 4 RD (in), 5 CLR (in), 6 DA0 (hiz), 7 DA1 (hiz), 8 DA2 (hiz), 9 DA3 (hiz), 10 DA4 (hiz), 11 DA5 (hiz), 12 DA6 (hiz), 13 DA7 (hiz), 14 GND (power) hidden to GND, 15 IN (in), 16 DB7 (hiz), 17 DB6 (hiz), 18 DB5 (hiz), 19 DB4 (hiz), 20 DB3 (hiz), 21 DB2 (hiz), 22 DB1 (hiz), 23 DB0 (hiz), 24 BIT2 (io), 24 BIT (io), 25 WR1 (out), 25 RD1 (out), 27 ER (out), 28 VCC (power) hidden to VCC

## K588WA1
designator U?
Text Field1: 80; Text Field2: 190
pins: 1 CS (in), 2 F1 (in), 3 F2 (in), 4 ER (out), 5 BIT1 (io), 6 DA0 (hiz), 7 DA1 (hiz), 8 DA2 (hiz), 9 DA3 (hiz), 10 DA4 (hiz), 11 DA5 (hiz), 12 DA6 (hiz), 13 DA7 (hiz), 14 GND (power) hidden to GND, 15 IN (in), 16 DB7 (hiz), 17 DB6 (hiz), 18 DB5 (hiz), 19 DB4 (hiz), 20 DB3 (hiz), 21 DB2 (hiz), 22 DB1 (hiz), 23 DB0 (hiz), 24 BIT2 (io), 25 TF (out), 26 CO2 (in), 27 CO1 (in), 28 VCC (power) hidden to VCC

## K588WT1
designator U?
Text Field1: 100; Text Field2: 310
pins: 1 DA12 (in), 2 DA11 (in), 3 DA10 (in), 4 DA9 (in), 5 DA8 (in), 6 DA7 (in), 7 DA6 (in), 8 DA5 (in), 9 DA4 (in), 10 DA3 (in), 11 DA2 (in), 12 DA1 (in), 13 DA0 (in), 14 BS (in), 15 SYNC (in), 16 WIBT (in), 17 DIN (in), 18 DOUT (in), 19 RPLY (out), 20 DONE (in), 21 GND (power) hidden to GND, 22 RD (out), 23 WRL (out), 24 WRH (out), 25 CS16 (out), 26 CS14 (out), 27 CS12 (out), 28 CS10 (out), 29 CS6 (out), 30 CS4 (out), 31 CS2 (out), 32 CS0 (out), 33 A4 (in), 34 A5 (in), 35 A6 (in), 36 A7 (in), 37 A8 (in), 38 A9 (in), 39 A10 (in), 40 A11 (in), 41 A12 (in), 42 VCC (power) hidden to VCC

## K588WU2
designator U?
Text Field1: 100; Text Field2: 280
pins: 1 G0 (in), 2 G1 (in), 3 G2 (in), 4 G3 (in), 5 K0 (in), 5 K1 (in), 7 K2 (in), 8 K3 (in), 9 K4 (in), 10 K5 (in), 11 K6 (in), 12 K7 (in), 13 K8 (in), 14 K9 (in), 15 K10 (in), 16 K11 (in), 17 K12 (in), 18 K13 (in), 19 K14 (in), 20 K15 (in), 21 GND (power) hidden to GND, 22 MNS0 (out), 23 MNS1 (out), 24 MNS2 (out), 25 MNS3 (out), 26 MNS4 (out), 27 MNS5 (out), 28 MNS6 (out), 29 MNS7 (out), 30 MNS8 (out), 31 MNS9 (out), 32 MNS10 (out), 33 MNS11 (out), 34 MNS12 (out), 36 F1 (in), 37 R1 (in), 38 ENDNG (out), 39 R0 (in), 40 IPA (out), 41 OPA (in), 42 VCC (power) hidden to VCC

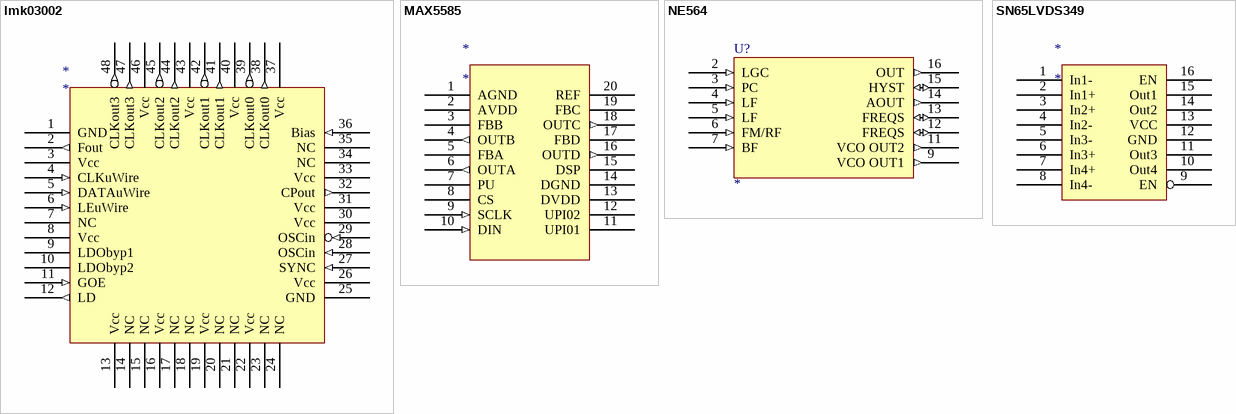
[diagram p3: symbols lmk03002 to SN65LVDS349]

## lmk03002
designator *
footprint LLP-48 (SQA48A)
pins: 1 GND (power), 2 Fout (out), 3 Vcc (power), 4 CLKuWire (in), 5 DATAuWire (in), 6 LEuWire (in), 7 NC, 8 Vcc (power), 9 LDObyp1, 10 LDObyp2, 11 GOE (in), 12 LD (out), 13 Vcc (power), 14 NC, 15 NC, 16 Vcc (power), 17 NC, 18 NC, 19 Vcc (power), 20 NC, 21 NC, 22 Vcc (power), 23 NC, 24 NC, 25 GND (power), 26 Vcc (power), 27 SYNC (in), 28 OSCin (in), 29 OSCin (in), 30 Vcc (power), 31 Vcc (power), 32 CPout (out), 33 Vcc (power), 34 NC, 35 NC, 36 Bias (in), 37 Vcc (power), 38 CLKout0 (out), 39 CLKout0 (out), 40 Vcc (power), 41 CLKout1 (out), 42 CLKout1 (out), 43 Vcc (power), 44 CLKout2 (out), 45 CLKout2 (out), 46 Vcc (power), 47 CLKout3 (out), 48 CLKout3 (out)

## MAX5585
designator *
footprint VO20 (20-Pin Thin Shrink Small Outline Package (VO20))
pins: 1 AGND, 2 AVDD (power), 3 FBB, 4 OUTB (out), 5 FBA, 6 OUTA (out), 7 PU, 8 CS, 9 SCLK (in), 10 DIN (in), 11 UPI01, 12 UPI02, 13 DVDD (power), 14 DGND, 15 DSP, 16 OUTD (out), 17 FBD, 18 OUTC (out), 19 FBC, 20 REF

## NE564
designator U?
Text Field1: 120; Text Field2: 80
pins: 1 VCC (power) hidden to VCC, 2 LGC (in), 3 PC (in), 4 LF (in), 5 LF (in), 6 FM/RF (in), 7 BF (in), 8 GND (power) hidden to GND, 9 VCO OUT1 (out), 10 VCC (power) hidden to VCC, 11 VCO OUT2 (out), 12 FREQS (io), 13 FREQS (io), 14 AOUT (out), 15 HYST (io), 16 OUT (out)

## SN65LVDS349
designator *
footprint TSSOP16 (Shrink Small Outline; 16 Leads; Body Width 4.4 mm; Pitch 0.65 mm)
pins: 1 In1-, 2 In1+, 3 In2+, 4 In2-, 5 In3-, 6 In3+, 7 In4+, 8 In4-, 9 EN, 10 Out4, 11 Out3, 12 GND, 13 VCC, 14 Out2, 15 Out1, 16 EN